# Altium footprint library 47uf_cap.PcbLib: 3 footprints
Each footprint in its own frame and in the unit in brackets; x right, y up, seen from the top. Pads: shape width x height; smd on the part's side, far side on the other; paste and mask are expansions set on the pad; w line width, h text height; cw(c..) or ccw(c..) is an arc to the next point about the centre after c.
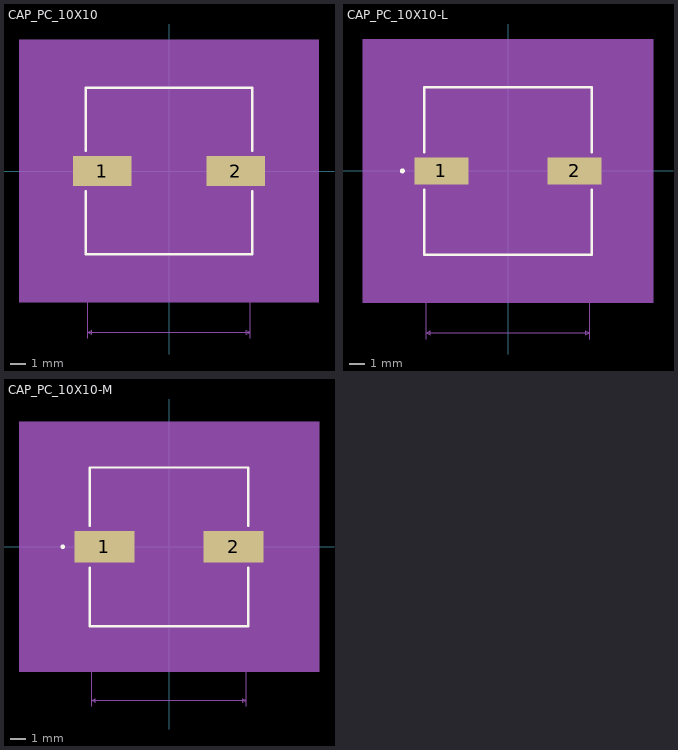
[diagram p0: the footprints below, top view; thin cyan lines are the x and y axes]

## CAP_PC_10X10 [mil]
pads (2):
  rect 146x75 smd paste+0 mask+0: 1(-167.5,0) 2(167.5,0)
Top Overlay:
  lines w6: -208,-50.6 -208,-208 208,-208 208,-50.6 ; -208,50.6 -208,208 208,208 208,50.6
Mechanical 5:
  region: 375.5,-328 -375.5,-328 -375.5,328 375.5,328
Mechanical 7:
  lines w1: -318,-203 -203,-203 -203,-418 ; -318,203 -203,203 ; -270.5,-303 -220.5,-303 ; -220.5,-318 -220.5,-47.5 ; -220.5,47.5 -220.5,318 ; -90.5,-318 -90.5,-27.5 ; -40.5,-303 -90.5,-303 ; 203,-418 203,-203 ; 220.5,47.5 220.5,318 ; 250.5,-21.5 355.5,-21.5 ; 250.5,21.5 355.5,21.5 ; 340.5,-71.5 340.5,-21.5 ; 340.5,71.5 340.5,21.5 ; -303,-203 -303,203 ; -303,-203 -308,-193 -298,-193 -303,-203 ; -303,203 -308,193 -298,193 -303,203 ; -220.5,-303 -230.5,-298 -230.5,-308 -220.5,-303 ; -220.5,303 220.5,303 ; -220.5,303 -210.5,308 -210.5,298 -220.5,303 ; -203,-403 203,-403 ; -203,-403 -193,-398 -193,-408 -203,-403 ; -90.5,-303 -80.5,-298 -80.5,-308 -90.5,-303 ; 203,-403 193,-398 193,-408 203,-403 ; 220.5,303 210.5,308 210.5,298 220.5,303 ; 340.5,-21.5 335.5,-31.5 345.5,-31.5 340.5,-21.5 ; 340.5,21.5 335.5,31.5 345.5,31.5 340.5,21.5
  text "Default Padstyle: RX146Y75D0T" at -362.5,-437.5 h50
  text "Alternate 1 Padstyle: OX60Y90D30P" at -412.5,-537.5 h50
  text "Alternate 2 Padstyle: OX90Y60D30P" at -412.5,-637.5 h50
  text "0.043in/1.092mm" at 360.5,-12.5 h25
  text "0.441in/11.201mm" at -100,323 h25
  text "0.406in/10.312mm" at -523,-12.5 h25
  text "0.13in/3.302mm" at -243,-348 h25
  text "0.406in/10.312mm" at -100,-448 h25
Mechanical 13:
  lines w1: -203,-101.5 -101.5,-203 ; -203,101.5 -101.5,203 ; -203,-203 203,-203 203,203 -203,203 -203,-203
Mechanical 15:
  region: -213,-47.5 -250.5,-47.5 -250.5,47.5 -213,47.5 -213,213 213,213 213,47.5 250.5,47.5 250.5,-47.5 213,-47.5 213,-213 -213,-213
  lines w6: -250.5,-47.5 -250.5,47.5 -213,47.5 -213,213 213,213 213,47.5 250.5,47.5 250.5,-47.5 213,-47.5 213,-213 -213,-213 -213,-47.5 -250.5,-47.5
3D body "CAP_PC_10X10.step": height 396.1, standoff 0, extent -220.5,-202.99 220.52,203
3D body: height 10, standoff 0, extent 0,0 10,10

## CAP_PC_10X10-L [mil]
pads (2):
  rect 134x67 smd paste+0 mask+0: 1(-165.5,0) 2(165.5,0)
Top Overlay:
  circle w6: c-262.5,0 r3
  lines w6: -208,-46.6 -208,-208 208,-208 208,-46.6 ; -208,46.6 -208,208 208,208 208,46.6
Mechanical 5:
  region: 361.5,-328 -361.5,-328 -361.5,328 361.5,328
Mechanical 7:
  lines w1: -318,-203 -203,-203 -203,-418 ; -318,203 -203,203 ; -270.5,-303 -220.5,-303 ; -220.5,-318 -220.5,-43.5 ; -220.5,43.5 -220.5,318 ; -90.5,-318 -90.5,-23.5 ; -40.5,-303 -90.5,-303 ; 203,-418 203,-203 ; 220.5,43.5 220.5,318 ; 242.5,-21.5 347.5,-21.5 ; 242.5,21.5 347.5,21.5 ; 332.5,-71.5 332.5,-21.5 ; 332.5,71.5 332.5,21.5 ; -303,-203 -298,-193 -308,-193 -303,-203 ; -303,-203 -303,203 ; -303,203 -298,193 -308,193 -303,203 ; -220.5,-303 -230.5,-308 -230.5,-298 -220.5,-303 ; -220.5,303 -210.5,298 -210.5,308 -220.5,303 ; -220.5,303 220.5,303 ; -203,-403 -193,-408 -193,-398 -203,-403 ; -203,-403 203,-403 ; -90.5,-303 -80.5,-308 -80.5,-298 -90.5,-303 ; 203,-403 193,-408 193,-398 203,-403 ; 220.5,303 210.5,298 210.5,308 220.5,303 ; 332.5,-21.5 337.5,-31.5 327.5,-31.5 332.5,-21.5 ; 332.5,21.5 337.5,31.5 327.5,31.5 332.5,21.5
  text "0.406in/10.312mm" at -100,-448 h25
  text "0.13in/3.302mm" at -243,-348 h25
  text "0.406in/10.312mm" at -523,-12.5 h25
  text "0.441in/11.201mm" at -100,323 h25
  text "0.043in/1.092mm" at 352.5,-12.5 h25
  text "Alternate 2 Padstyle: OX90Y60D30P" at -412.5,-641.5 h50
  text "Alternate 1 Padstyle: OX60Y90D30P" at -412.5,-541.5 h50
  text "Default Padstyle: RX134Y67D0T" at -362.5,-441.5 h50
Mechanical 13:
  circle w0: c-183,0 r3
  lines w1: -203,-101.5 -101.5,-203 ; -203,101.5 -101.5,203 ; -203,-203 -203,203 203,203 203,-203 -203,-203
Mechanical 15:
  region: -207,-37.5 -236.5,-37.5 -236.5,37.5 -207,37.5 -207,207 207,207 207,37.5 236.5,37.5 236.5,-37.5 207,-37.5 207,-207 -207,-207
  lines w6: -236.5,-37.5 -207,-37.5 -207,-207 207,-207 207,-37.5 236.5,-37.5 236.5,37.5 207,37.5 207,207 -207,207 -207,37.5 -236.5,37.5 -236.5,-37.5
3D body: height 10, standoff 0, extent 0,0 10,10

## CAP_PC_10X10-M [mil]
pads (2):
  rect 158x83 smd paste+0 mask+0: 1(-169.5,0) 2(169.5,0)
Top Overlay:
  circle w6: c-278.5,0 r3
  lines w6: -208,-54.6 -208,-208 208,-208 208,-54.6 ; -208,54.6 -208,208 208,208 208,54.6
Mechanical 5:
  region: 393.5,-328 -393.5,-328 -393.5,328 393.5,328
Mechanical 7:
  lines w1: -318,-203 -203,-203 -203,-418 ; -318,203 -203,203 ; -270.5,-303 -220.5,-303 ; -220.5,-318 -220.5,-51.5 ; -220.5,51.5 -220.5,318 ; -90.5,-318 -90.5,-31.5 ; -40.5,-303 -90.5,-303 ; 203,-418 203,-203 ; 220.5,51.5 220.5,318 ; 258.5,-21.5 363.5,-21.5 ; 258.5,21.5 363.5,21.5 ; 348.5,-71.5 348.5,-21.5 ; 348.5,71.5 348.5,21.5 ; -303,-203 -303,203 ; -303,-203 -308,-193 -298,-193 -303,-203 ; -303,203 -308,193 -298,193 -303,203 ; -220.5,-303 -230.5,-298 -230.5,-308 -220.5,-303 ; -220.5,303 220.5,303 ; -220.5,303 -210.5,308 -210.5,298 -220.5,303 ; -203,-403 203,-403 ; -203,-403 -193,-398 -193,-408 -203,-403 ; -90.5,-303 -80.5,-298 -80.5,-308 -90.5,-303 ; 203,-403 193,-398 193,-408 203,-403 ; 220.5,303 210.5,308 210.5,298 220.5,303 ; 348.5,-21.5 343.5,-31.5 353.5,-31.5 348.5,-21.5 ; 348.5,21.5 343.5,31.5 353.5,31.5 348.5,21.5
  text "Default Padstyle: RX158Y83D0T" at -362.5,-433.5 h50
  text "Alternate 1 Padstyle: OX60Y90D30P" at -412.5,-533.5 h50
  text "Alternate 2 Padstyle: OX90Y60D30P" at -412.5,-633.5 h50
  text "0.043in/1.092mm" at 368.5,-12.5 h25
  text "0.441in/11.201mm" at -100,323 h25
  text "0.406in/10.312mm" at -523,-12.5 h25
  text "0.13in/3.302mm" at -243,-348 h25
  text "0.406in/10.312mm" at -100,-448 h25
Mechanical 13:
  circle w0: c-183,0 r3
  lines w1: -203,-101.5 -101.5,-203 ; -203,101.5 -101.5,203 ; -203,-203 203,-203 203,203 -203,203 -203,-203
Mechanical 15:
  region: -223,-61.5 -268.5,-61.5 -268.5,61.5 -223,61.5 -223,223 223,223 223,61.5 268.5,61.5 268.5,-61.5 223,-61.5 223,-223 -223,-223
  lines w6: -268.5,-61.5 -268.5,61.5 -223,61.5 -223,223 223,223 223,61.5 268.5,61.5 268.5,-61.5 223,-61.5 223,-223 -223,-223 -223,-61.5 -268.5,-61.5
3D body: height 10, standoff 0, extent 0,0 10,10